# Altium schematic symbol library LTR-329ALS-01.SchLib: 1 symbol
Pins are listed as number, name and electrical type; pins without a type are passive.

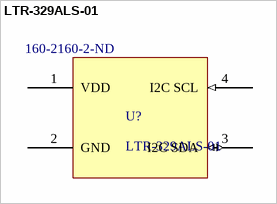
[diagram p0: symbol LTR-329ALS-01]

## LTR-329ALS-01
designator U?  Supplier Part Number 1: 160-2160-2-ND
Optical Sensor Ambient I²C 4-VDFN; Supplier 1: Digi-Key
footprint LTR-329ALS-01 (Optical Sensor Ambient I²C 4-VDFN)
pins: 1 VDD (power), 2 GND (power), 3 I2C SDA (io), 4 I2C SCL (in)